# EAGLE library part MEM_MNAND_2GB_BGA153_P14_P5_11P (library BeagleBone_Black_egl)
MEM_MNAND_2GB_BGA153_P14_P5_11P
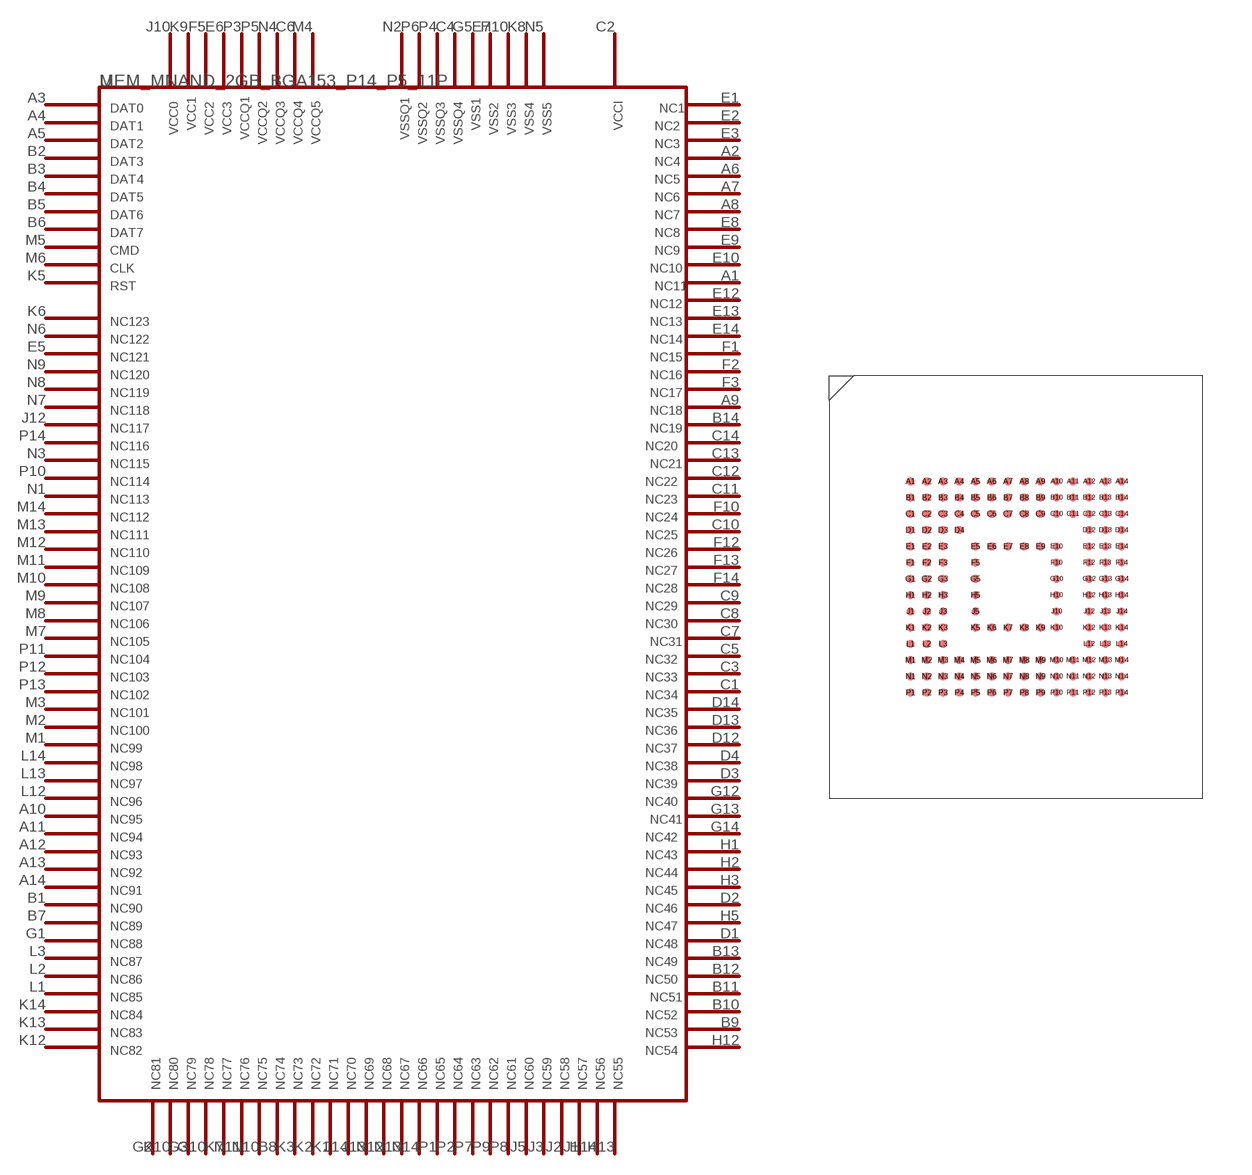
[diagram p12: symbol with the pads of BGA153_P14_P5_11P5X13; footprint BGA153_P14_P5_11P5X13]

Designator prefix -

## MEM_MNAND_2GB_BGA153_P14_P5_11P  [BGA153_P14_P5_11P5X13]
A1  1
A2  2
A3  3
A4  4
A5  5
A6  6
A7  7
A8  8
A9  9
A10  10
A11  11
A12  12
A13  13
A14  14
B1  15
B2  16
B3  17
B4  18
B5  19
B6  20
B7  21
B8  22
B9  23
B10  24
B11  25
B12  26
B13  27
B14  28
C1  29
C2  30
C3  31
C4  32
C5  33
C6  34
C7  35
C8  36
C9  37
C10  38
C11  39
C12  40
C13  41
C14  42
D1  43
D2  44
D3  45
D4  46
D12  47
D13  48
D14  49
E1  50
E2  51
E3  52
E5  151
E6  53
E7  54
E8  56
E9  57
E10  58
E12  59
E13  60
E14  61
F1  62
F2  63
F3  64
F5  65
F10  66
F12  67
F13  68
F14  69
G1  70
G2  71
G3  77
G5  72
G10  73
G12  74
G13  75
G14  76
H1  78
H2  79
H3  80
H5  85
H10  81
H12  82
H13  83
H14  84
J1  86
J2  87
J3  88
J5  89
J10  150
J12  126
J13  90
J14  91
K1  92
K2  93
K3  94
K5  149
K6  153
K7  95
K8  96
K9  97
K10  98
K12  99
K13  100
K14  101
L1  102
L2  103
L3  104
L12  105
L13  106
L14  107
M1  108
M2  109
M3  110
M4  111
M5  112
M6  113
M7  114
M8  115
M9  116
M10  117
M11  118
M12  119
M13  120
M14  121
N1  122
N2  123
N3  124
N4  125
N5  55
N6  152
N7  127
N8  128
N9  129
N10  130
N11  131
N12  132
N13  133
N14  134
P1  135
P2  136
P3  137
P4  138
P5  139
P6  140
P7  141
P8  142
P9  143
P10  144
P11  145
P12  146
P13  147
P14  148

## Footprint BGA153_P14_P5_11P5X13 (pad centres in mm)
smd 0.254 x 0.254: A1 -3.25,3.25; A2 -2.75,3.25; A3 -2.25,3.25; A4 -1.75,3.25; A5 -1.25,3.25; A6 -0.75,3.25; A7 -0.25,3.25; A8 0.25,3.25; A9 0.75,3.25; A10 1.25,3.25; A11 1.75,3.25; A12 2.25,3.25; A13 2.75,3.25; A14 3.25,3.25; B1 -3.25,2.75; B2 -2.75,2.75; B3 -2.25,2.75; B4 -1.75,2.75; B5 -1.25,2.75; B6 -0.75,2.75; B7 -0.25,2.75; B8 0.25,2.75; B9 0.75,2.75; B10 1.25,2.75; B11 1.75,2.75; B12 2.25,2.75; B13 2.75,2.75; B14 3.25,2.75; C1 -3.25,2.25; C2 -2.75,2.25; C3 -2.25,2.25; C4 -1.75,2.25; C5 -1.25,2.25; C6 -0.75,2.25; C7 -0.25,2.25; C8 0.25,2.25; C9 0.75,2.25; C10 1.25,2.25; C11 1.75,2.25; C12 2.25,2.25; C13 2.75,2.25; C14 3.25,2.25; D1 -3.25,1.75; D2 -2.75,1.75; D3 -2.25,1.75; D4 -1.75,1.75; D12 2.25,1.75; D13 2.75,1.75; D14 3.25,1.75; E1 -3.25,1.25; E2 -2.75,1.25; E3 -2.25,1.25; E5 -1.25,1.25; E6 -0.75,1.25; E7 -0.25,1.25; E8 0.25,1.25; E9 0.75,1.25; E10 1.25,1.25; E12 2.25,1.25; E13 2.75,1.25; E14 3.25,1.25; F1 -3.25,0.75; F2 -2.75,0.75; F3 -2.25,0.75; F5 -1.25,0.75; F10 1.25,0.75; F12 2.25,0.75; F13 2.75,0.75; F14 3.25,0.75; G1 -3.25,0.25; G2 -2.75,0.25; G3 -2.25,0.25; G5 -1.25,0.25; G10 1.25,0.25; G12 2.25,0.25; G13 2.75,0.25; G14 3.25,0.25; H1 -3.25,-0.25; H2 -2.75,-0.25; H3 -2.25,-0.25; H5 -1.25,-0.25; H10 1.25,-0.25; H12 2.25,-0.25; H13 2.75,-0.25; H14 3.25,-0.25; J1 -3.25,-0.75; J2 -2.75,-0.75; J3 -2.25,-0.75; J5 -1.25,-0.75; J10 1.25,-0.75; J12 2.25,-0.75; J13 2.75,-0.75; J14 3.25,-0.75; K1 -3.25,-1.25; K2 -2.75,-1.25; K3 -2.25,-1.25; K5 -1.25,-1.25; K6 -0.75,-1.25; K7 -0.25,-1.25; K8 0.25,-1.25; K9 0.75,-1.25; K10 1.25,-1.25; K12 2.25,-1.25; K13 2.75,-1.25; K14 3.25,-1.25; L1 -3.25,-1.75; L2 -2.75,-1.75; L3 -2.25,-1.75; L12 2.25,-1.75; L13 2.75,-1.75; L14 3.25,-1.75; M1 -3.25,-2.25; M2 -2.75,-2.25; M3 -2.25,-2.25; M4 -1.75,-2.25; M5 -1.25,-2.25; M6 -0.75,-2.25; M7 -0.25,-2.25; M8 0.25,-2.25; M9 0.75,-2.25; M10 1.25,-2.25; M11 1.75,-2.25; M12 2.25,-2.25; M13 2.75,-2.25; M14 3.25,-2.25; N1 -3.25,-2.75; N2 -2.75,-2.75; N3 -2.25,-2.75; N4 -1.75,-2.75; N5 -1.25,-2.75; N6 -0.75,-2.75; N7 -0.25,-2.75; N8 0.25,-2.75; N9 0.75,-2.75; N10 1.25,-2.75; N11 1.75,-2.75; N12 2.25,-2.75; N13 2.75,-2.75; N14 3.25,-2.75; P1 -3.25,-3.25; P2 -2.75,-3.25; P3 -2.25,-3.25; P4 -1.75,-3.25; P5 -1.25,-3.25; P6 -0.75,-3.25; P7 -0.25,-3.25; P8 0.25,-3.25; P9 0.75,-3.25; P10 1.25,-3.25; P11 1.75,-3.25; P12 2.25,-3.25; P13 2.75,-3.25; P14 3.25,-3.25